# Altium integrated library MH-Z19C.IntLib: 1 symbol
Pins are listed as number, name and electrical type; pins without a type are passive.

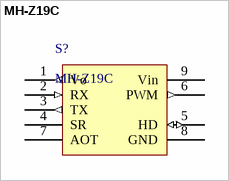
[diagram p0: symbol MH-Z19C]

## MH-Z19C
designator S?
Infrared CO2 Sensor Module; ComponentLink1Description: Datasheet; ComponentLink1URL: https://www.winsen-sensor.com/d/files/infrared-gas-sensor/mh-z19c-pins-type-co2-manual-ver1_0.pdf; MPN: MH-Z19C
footprint MH-Z19C CO2 Sensor (MH-Z19C Footprint)
pins: 1 Vo (out), 2 RX (in), 3 TX (out), 4 SR, 5 HD (io), 6 PWM (out), 7 AOT, 8 GND (power), 9 Vin (power)